# Altium footprint library Speaker.PcbLib: 4 footprints
Each footprint in its own frame and in the unit in brackets; x right, y up, seen from the top. Pads: shape width x height; smd on the part's side, far side on the other; paste and mask are expansions set on the pad; w line width, h text height; cw(c..) or ccw(c..) is an arc to the next point about the centre after c.
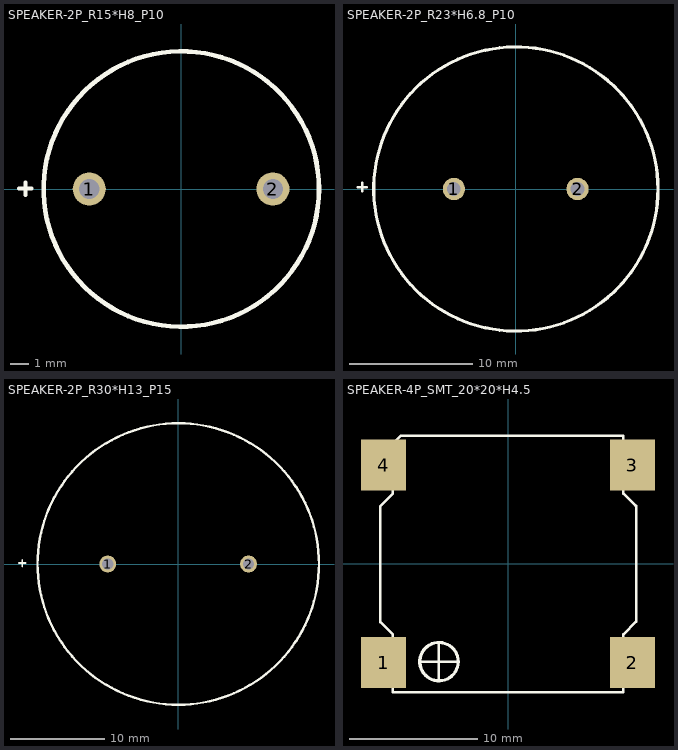
[diagram p0: the footprints below, top view; thin cyan lines are the x and y axes]

## SPEAKER-2P_R15*H8_P10 [mm]
pads (2):
  round 1.8 hole 1.1: 1(-5,0) 2(5,0)
Top Overlay:
  circle w0.254: c0.013,0 r7.5
  lines w0.203: -8.825,0.023 -8.475,0.023 ; -8.475,-0.327 -8.475,0.023 ; -8.475,0.373 -8.475,0.023 ; -8.125,0.023 -8.475,0.023

## SPEAKER-2P_R23*H6.8_P10 [mm]
pads (2):
  round 1.8 hole 1.1: 1(-5,0) 2(5,0)
Top Overlay:
  circle w0.254: c0.013,0 r11.5
  lines w0.203: -12.762,0.15 -12.412,0.15 ; -12.412,-0.2 -12.412,0.15 ; -12.412,0.5 -12.412,0.15 ; -12.062,0.15 -12.412,0.15

## SPEAKER-2P_R30*H13_P15 [mm]
pads (2):
  round 1.8 hole 1.2: 1(-7.5,0) 2(7.5,0)
Top Overlay:
  circle w0.254: c0.013,0 r15
  lines w0.203: -16.962,0.1 -16.612,0.1 ; -16.612,-0.25 -16.612,0.1 ; -16.612,0.45 -16.612,0.1 ; -16.262,0.1 -16.612,0.1

## SPEAKER-4P_SMT_20*20*H4.5 [mm]
pads (4):
  rect 3.5x4 smd: 1(-9.713,-7.712) 2(9.713,-7.712) 3(9.713,7.713) 4(-9.713,7.713)
Top Overlay:
  circle w0.254: c-5.388,-7.637 r1.5
  lines w0.203: -9.988,-4.537 -9.988,4.488 -8.988,5.487 ; -9.962,-4.537 -8.988,-5.512 -8.988,-10.012 9.012,-10.013 ; -8.7,9.675 -8.388,9.988 9.012,9.988 9.012,5.487 9.987,4.513 ; -8.438,9.938 -8.963,9.413 -8.988,9.388 -8.988,5.487 ; -6.865,-7.653 -3.903,-7.653 ; -5.413,-9.088 -5.413,-6.162 ; 9.012,-9.987 9.012,-5.512 10.012,-4.513 10.012,4.513 ; -8.988,5.487 -8.988,5.487